# Altium schematic symbol library HT-T169DNC_White.SchLib: 1 symbol
Pins are listed as number, name and electrical type; pins without a type are passive.

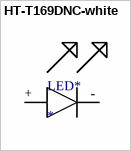
[diagram p0: symbol HT-T169DNC-white]

## HT-T169DNC-white
designator LED*
white led
footprint HT-T169DNC_white (Chip LED white, 2-Leads, Body 3.50x2.70mm, IPC Medium Density)
pins: +, -